# Altium footprint library boxer_mechanical.PcbLib: 33 footprints (part 2 of 3)
Each footprint in its own frame and in the unit in brackets; x right, y up, seen from the top. Pads: shape width x height; smd on the part's side, far side on the other; paste and mask are expansions set on the pad; w line width, h text height; cw(c..) or ccw(c..) is an arc to the next point about the centre after c.
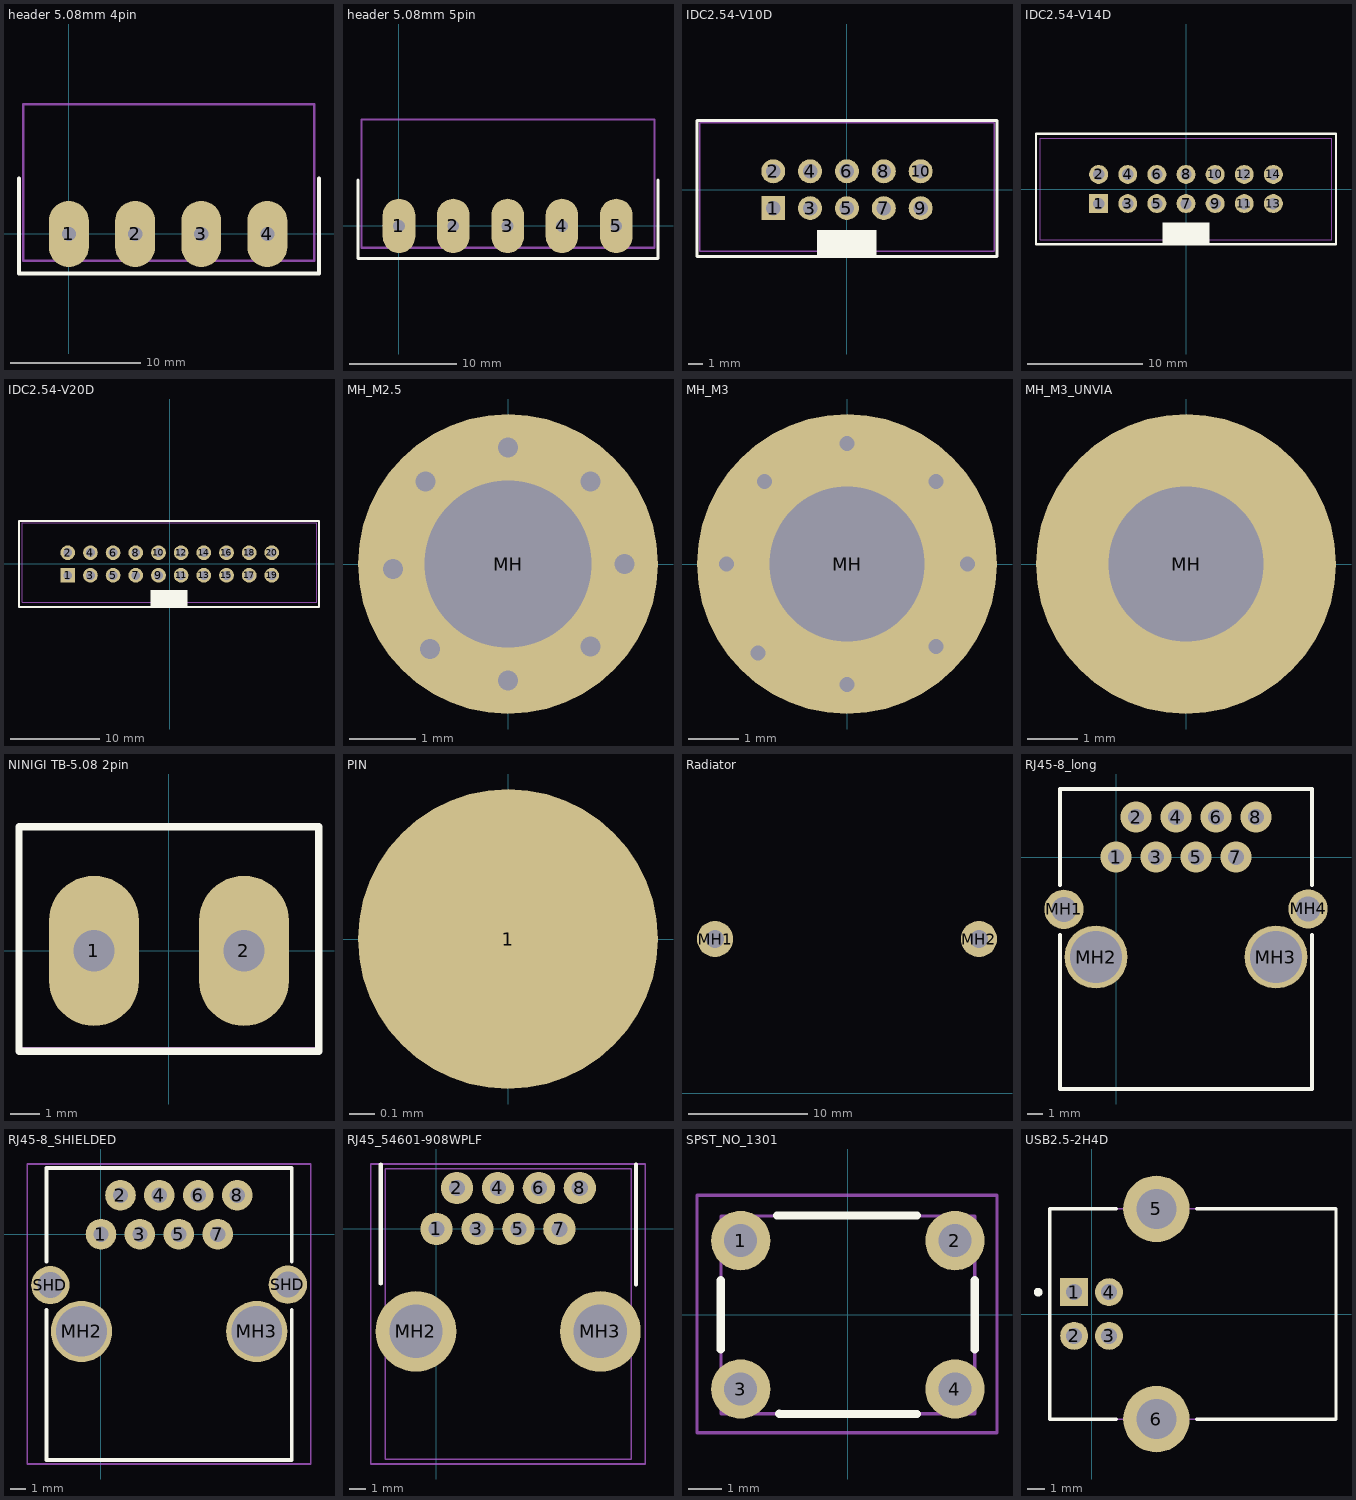
[diagram p1: the footprints below, top view; thin cyan lines are the x and y axes]

## header 5.08mm 4pin [mm]
height 7.8
pads (4):
  oval 3.048x5.08 hole 1.1: 1(0,0) 2(5.08,0) 3(10.16,0) 4(15.24,0)
Top Overlay:
  lines w0.254: -1.4,0 0,0 ; 10.16,0 11.56,0
  lines w0.3: -3.833,4.275 -3.833,-3.05 19.2,-3.05 19.2,4.275
Mechanical 13:
  lines w0.2: -3.503,-2.05 18.825,-2.05 18.825,9.95 -3.503,9.95 -3.503,-2.05
3D body "User Library-TB5_08-4R.step": height 8.55, standoff -4.1, extent -3.503,-2.05 18.817,9.95

## header 5.08mm 5pin [mm]
height 7.8
pads (5):
  oval 3.048x5.08 hole 1.1: 1(0,0) 2(5.08,0) 3(10.16,0) 4(15.24,0) 5(20.32,0)
Top Overlay:
  lines w0.254: -1.4,0 0,0 ; 10.16,0 11.56,0
  lines w0.3: -3.833,4.275 -3.833,-3.05 24.225,-3.05 24.225,4.275
Mechanical 13:
  lines w0.2: -3.503,-2.05 23.897,-2.05 23.897,9.95 -3.503,9.95 -3.503,-2.05
3D body "User Library-TB5_08-5R.step": height 8.55, standoff -4.1, extent -3.503,-2.05 23.897,9.95

## IDC2.54-V10D [mm]
height 9.45
pads (10):
  rect 1.65x1.65 hole 1: 1(-5.08,-1.27)
  round 1.65 hole 1: 2(-5.08,1.27) 3(-2.54,-1.27) 4(-2.54,1.27) 5(0,-1.27) 6(0,1.27) 7(2.54,-1.27) 8(2.54,1.27) 9(5.08,-1.27) 10(5.08,1.27)
Top Overlay:
  rectangle: -2.05,-4.675 2.05,-2.775
  lines w0.2: -10.335,-4.6 10.34,-4.6 10.34,4.775 -10.335,4.775 -10.335,-4.6
Mechanical 13:
  lines w0.1: -10.135,-4.25 -10.135,4.6 10.165,4.6 10.165,-4.25 -10.135,-4.25
3D body "User Library-IDC Socket Male 10pin Straight THT Goldplated 2_54mm.step": height 8.93, standoff -3.47, extent -10.135,-4.25 10.165,4.6

## IDC2.54-V14D [mm] "Connector; IDC, Low Profile Male Header, Thru-Hole; 14 Position; Vertical; Pitch 2.54 mm; Body 25.40 x 9.2 x 9.45 mm (LxWxH)"
height 9.45
pads (14):
  rect 1.65x1.65 hole 1: 1(-7.62,-1.27)
  round 1.65 hole 1: 2(-7.62,1.27) 3(-5.08,-1.27) 4(-5.08,1.27) 5(-2.54,-1.27) 6(-2.54,1.27) 7(0,-1.27) 8(0,1.27) 9(2.54,-1.27) 10(2.54,1.27) 11(5.08,-1.27) 12(5.08,1.27) 13(7.62,-1.27) 14(7.62,1.27)
Top Overlay:
  rectangle: -2.032,-4.826 2.068,-2.926
  lines w0.2: -13.081,-4.826 -13.081,4.826 13.081,4.826 13.081,-4.826 -13.081,-4.826
Mechanical 13:
  lines w0.1: -12.7,-4.445 12.7,-4.445 12.7,4.445 -12.7,4.445 -12.7,-4.445
3D body "User Library-IDC Socket Male 14pin Straight THT Goldplated 2_54mm.STEP": height 8.93, standoff -3.47, extent -12.69,-4.405 12.69,4.445

## IDC2.54-V20D [mm] "Connector; IDC, Low Profile Male Header, Thru-Hole; 14 Position; Vertical; Pitch 2.54 mm; Body 25.40 x 9.2 x 9.45 mm (LxWxH)"
height 9.45
pads (20):
  rect 1.65x1.65 hole 1: 1(-11.43,-1.27)
  round 1.65 hole 1: 2(-11.43,1.27) 3(-8.89,-1.27) 4(-8.89,1.27) 5(-6.35,-1.27) 6(-6.35,1.27) 7(-3.81,-1.27) 8(-3.81,1.27) 9(-1.27,-1.27) 10(-1.27,1.27) 11(1.27,-1.27) 12(1.27,1.27) 13(3.81,-1.27) 14(3.81,1.27) 15(6.35,-1.27) 16(6.35,1.27) 17(8.89,-1.27) 18(8.89,1.27) 19(11.43,-1.27) 20(11.43,1.27)
Top Overlay:
  rectangle: -2.138,-4.826 1.962,-2.926
  lines w0.2: -16.891,-4.826 16.715,-4.826 16.715,4.826 -16.891,4.826 -16.891,-4.826
Mechanical 13:
  lines w0.1: -16.5,-4.3 -16.5,4.6 16.475,4.6 16.475,-4.3 -16.5,-4.3
3D body "User Library-IDC Socket Male 20pin Straight THT Goldplated 2_54mm.step": height 8.93, standoff -3.47, extent -16.5,-4.25 16.5,4.6

## MH_M2.5 [mm] "M2.5"
pads (1):
  round 4.5 hole 2.5: MH(0,0)
via 1.75,0 diameter 0.6 hole 0.3
via -1.725,-0.075 diameter 0.6 hole 0.3
via 0,-1.75 diameter 0.6 hole 0.3
via 0,1.75 diameter 0.6 hole 0.3
via -1.237,1.237 diameter 0.6 hole 0.3
via 1.237,-1.237 diameter 0.6 hole 0.3
via -1.167,-1.273 diameter 0.6 hole 0.3
via 1.237,1.237 diameter 0.6 hole 0.3

## MH_M3 [mm] "M3 3mm hole"
pads (1):
  round 6 hole 3.1: MH(0,0)
via 0,2.413 diameter 0.6 hole 0.3
via -1.651,1.651 diameter 0.6 hole 0.3
via -2.413,0 diameter 0.6 hole 0.3
via -1.778,-1.778 diameter 0.6 hole 0.3
via 0,-2.413 diameter 0.6 hole 0.3
via 1.778,-1.651 diameter 0.6 hole 0.3
via 2.413,0 diameter 0.6 hole 0.3
via 1.778,1.651 diameter 0.6 hole 0.3

## MH_M3_UNVIA [mm] "M3 3mm hole"
pads (1):
  round 6 hole 3.1: MH(0,0)

## NINIGI TB-5.08 2pin [mm] "NINIGI TB-5.08-P-2P/BL"
height 10
pads (2):
  oval 3.048x5.08 hole 1.4: 1(-2.54,0) 2(2.54,0)
Top Overlay:
  lines w0.254: -5.08,-3.4 5.08,-3.4 5.08,4.2 -5.08,4.2 -5.08,-3.4
Mechanical 13:
  lines w0.1: -5.08,-3.3 -5.08,4.2 5.08,4.2 5.08,-3.3 -5.08,-3.3
  text ".Designator" at -5.094,4.518 h0.5
  text ".Value" at -0.95,0.3 h0.5
3D body "User Library-Terminal block 2 POS.STEP": height 10, standoff -3.05, extent -5.08,-3.3 5.08,4.2

## PIN [mm] "Test Pad"
pads (1):
  round 1.2 smd: 1(0,0)

## Radiator [mm] "RAD-DY-GF/3"
height 15
pads (2):
  round 3.048 hole 1.5: MH1(3.9,13) MH2(26.1,13)

## RJ45-8_long [mm]
pads (12):
  round 2 hole 1: 1(0,0) 2(1.27,2.54) 3(2.54,0) 4(3.81,2.54) 5(5.08,0) 6(6.35,2.54) 7(7.62,0) 8(8.89,2.54)
  round 2.5 hole 1.6: MH1(-3.305,-3.325) MH4(12.195,-3.3)
  round 4 hole 3.3: MH2(-1.27,-6.35) MH3(10.16,-6.35)
Top Overlay:
  lines w0.254: -3.556,-4.953 -3.556,-14.732 12.446,-14.732 12.446,-4.953 ; -3.556,-1.778 -3.556,4.318 12.446,4.318 12.446,-1.778
3D body "User Library-FRJAE-468.step": height 13.98, standoff -3.68, extent -3.255,-14.542 12.145,4.128

## RJ45-8_SHIELDED [mm]
height 11.7
pads (12):
  round 2 hole 1: 1(0,0) 2(1.27,2.54) 3(2.54,0) 4(3.81,2.54) 5(5.08,0) 6(6.35,2.54) 7(7.62,0) 8(8.89,2.54)
  round 4 hole 3.3: MH2(-1.27,-6.35) MH3(10.16,-6.35)
  round 2.5 hole 1.7: SHD(-3.305,-3.325) SHD(12.195,-3.3)
Top Overlay:
  lines w0.254: -3.556,-4.953 -3.556,-14.732 12.446,-14.732 12.446,-4.953 ; -3.556,-1.778 -3.556,4.318 12.446,4.318 12.446,-1.778
Mechanical 15:
  lines w0.1: -4.825,-15 -4.825,4.575 13.7,4.575 13.7,-15 -4.825,-15
3D body "User Library-FRJAE-468.step": height 13.98, standoff -3.68, extent -3.255,-14.542 12.145,4.128

## RJ45_54601-908WPLF [mm]
height 11.5
pads (10):
  round 2 hole 1: 1(0,0) 2(1.27,2.54) 3(2.54,0) 4(3.81,2.54) 5(5.08,0) 6(6.35,2.54) 7(7.62,0) 8(8.89,2.54)
  round 5 hole 3.3 unplated: MH2(-1.27,-6.35) MH3(10.16,-6.35)
Top Overlay:
  lines w0.254: -3.45,-3.375 -3.45,4 ; 12.375,-3.45 12.375,4
Mechanical 13:
  lines w0.1: -3.165,-14.275 -3.165,3.725 12.075,3.725 12.075,-14.275 -3.165,-14.275
  text ".Value" at 3.75,-3.95 h0.5
  text ".Designator" at -3.019,4.018 h0.5
Mechanical 15:
  lines w0.1: -4.075,-14.575 12.95,-14.575 12.95,4.025 -4.075,4.025 -4.075,-14.575
3D body "s54601-908wplf.stp": height 12, standoff -3.25, extent -3.165,-14.275 12.075,3.725

## SPST_NO_1301 [mm] "Micro Switch case 1301"
height 5
pads (4):
  round 1.8 hole 1: 1(-3.25,2.25) 2(3.25,2.25) 3(-3.25,-2.25) 4(3.25,-2.25)
Top Overlay:
  lines w0.254: -3.85,-1.05 -3.85,1.05 ; -2.15,3.012 2.1,3.012 ; -2.075,-3 2.1,-3.008 ; 3.85,-1.05 3.85,1.05
Mechanical 13:
  lines w0.1: -3.85,-3 -3.85,3 3.85,3 3.85,-3 -3.85,-3
  text ".Comment" at -1.65,-0.15 h0.5
  text ".Designator" at -3.875,3.325 h0.5
Mechanical 15:
  lines w0.1: -4.575,-3.575 -4.575,3.625 4.525,3.625 4.525,-3.575 -4.575,-3.575
3D body "19929.stp": height 4.3, standoff -3.5, extent -3.85,-3 3.85,3

## USB2.5-2H4D [mm] "Connector; USB1.1, Type B, Thru-Hole; 4 Position; Right Angle"
height 11.1
pads (6):
  rect 1.6x1.6 hole 0.92: 1(-1,1.25)
  round 1.6 hole 0.92: 2(-1,-1.25) 3(1,-1.25) 4(1,1.25)
  round 3.8 hole 2.3: 5(3.71,6.02) 6(3.71,-6.02)
Top Overlay:
  circle w0.25: c-3.06,1.25 r0.125
  lines w0.2: 1.41,-6.02 -2.41,-6.02 -2.41,6.02 1.41,6.02 ; 6.01,-6.02 13.99,-6.02 13.99,6.02 6.01,6.02
Mechanical 13:
  lines w0.1: -2.41,-6.02 13.99,-6.02 13.99,6.02 -2.41,6.02 -2.41,-6.02
3D body: height 11.1, standoff 0, extent -2.41,-6.02 13.99,6.02